# Altium footprint library Header.PcbLib: 38 footprints (part 3 of 3)
Each footprint in its own frame and in the unit in brackets; x right, y up, seen from the top. Pads: shape width x height; smd on the part's side, far side on the other; paste and mask are expansions set on the pad; w line width, h text height; cw(c..) or ccw(c..) is an arc to the next point about the centre after c.
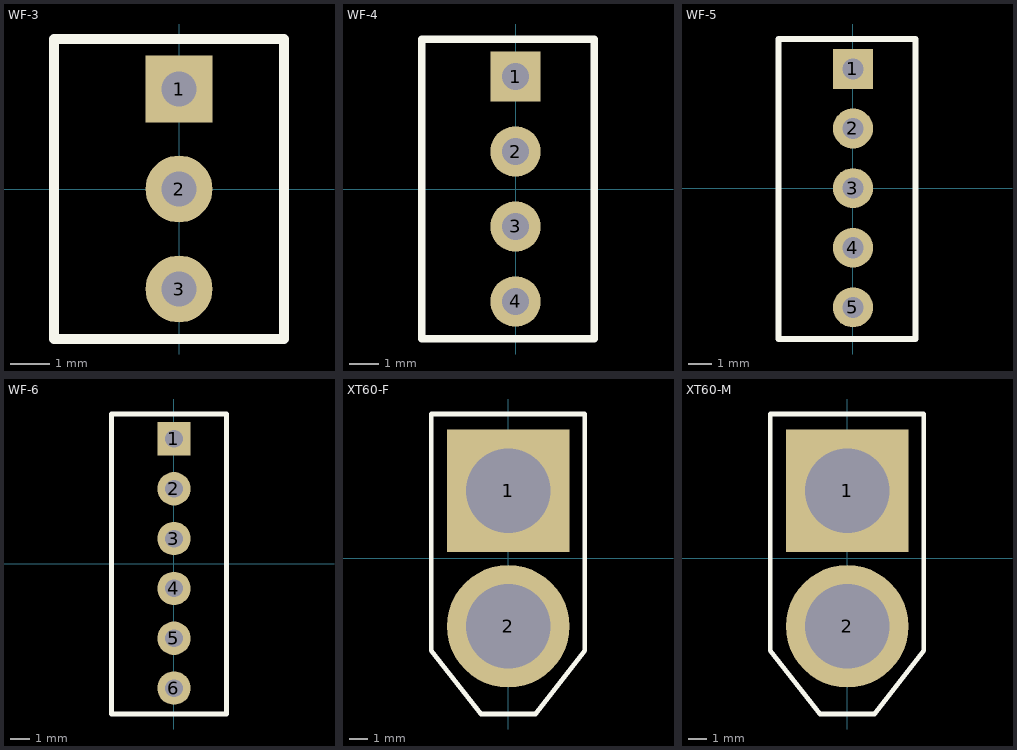
[diagram p2: the footprints below, top view; thin cyan lines are the x and y axes]

## WF-3 [mm]
height 5
pads (3):
  rect 1.7x1.7 hole 0.9: 1(0,2.54)
  round 1.7 hole 0.9: 2(0,0) 3(0,-2.54)
Top Overlay:
  lines w0.254: -3.175,-3.81 -3.175,3.81 2.667,3.81 2.667,-3.81 -3.175,-3.81
3D body "WF-3.step": height 11.75, standoff -2.97, extent -3.233,-3.9 2.667,3.9

## WF-4 [mm]
height 5
pads (4):
  rect 1.7x1.7 hole 0.9: 1(0,3.81)
  round 1.7 hole 0.9: 2(0,1.27) 3(0,-1.27) 4(0,-3.81)
Top Overlay:
  lines w0.254: -3.175,-5.08 -3.175,5.08 2.667,5.08 2.667,-5.08 -3.175,-5.08
3D body "WF-4.step": height 11.73, standoff -2.55, extent -3.2,-5.08 2.7,5.08

## WF-5 [mm]
height 5
pads (5):
  rect 1.7x1.7 hole 0.9: 1(0,5.08)
  round 1.7 hole 0.9: 2(0,2.54) 3(0,0) 4(0,-2.54) 5(0,-5.08)
Top Overlay:
  lines w0.254: -3.175,-6.426 -3.175,6.35 2.667,6.35 2.667,-6.426 -3.175,-6.426
3D body "WF-5.step": height 11.74, standoff -2.66, extent -3.209,-6.35 2.591,6.35

## WF-6 [mm]
height 5
pads (6):
  rect 1.7x1.7 hole 0.9: 1(0,6.35)
  round 1.7 hole 0.9: 2(0,3.81) 3(0,1.27) 4(0,-1.27) 5(0,-3.81) 6(0,-6.35)
Top Overlay:
  lines w0.254: -3.175,-7.671 -3.175,7.62 2.667,7.62 2.667,-7.671 -3.175,-7.671
3D body "WF-6.step": height 11.87, standoff -2.53, extent -3.184,-7.645 2.616,7.595

## XT60-F [mm]
height 15
pads (2):
  rect 6.5x6.5 hole 4.5: 1(0,3.6)
  round 6.5 hole 4.5: 2(0,-3.6)
Top Overlay:
  lines w0.254: -4.089,-4.9 -1.445,-8.255 1.445,-8.255 4.064,-4.9 4.064,7.671 -4.089,7.671 -4.089,-4.9
3D body "XT60-F.step": height 17.3, standoff -4.9, extent -4.086,-8.179 4.064,7.721

## XT60-M [mm]
height 15
pads (2):
  rect 6.5x6.5 hole 4.5: 1(0,3.6)
  round 6.5 hole 4.5: 2(0,-3.6)
Top Overlay:
  lines w0.254: -4.089,-4.9 -1.445,-8.255 1.445,-8.255 4.064,-4.9 4.064,7.671 -4.089,7.671 -4.089,-4.9
3D body "XT60-M.step": height 16.2, standoff -5, extent -4.05,-8.25 4.1,7.65